# Altium footprint library RUF-Dispositivos-Grales.PcbLib: 97 footprints (part 3 of 7)
Each footprint in its own frame and in the unit in brackets; x right, y up, seen from the top. Pads: shape width x height; smd on the part's side, far side on the other; paste and mask are expansions set on the pad; w line width, h text height; cw(c..) or ccw(c..) is an arc to the next point about the centre after c.
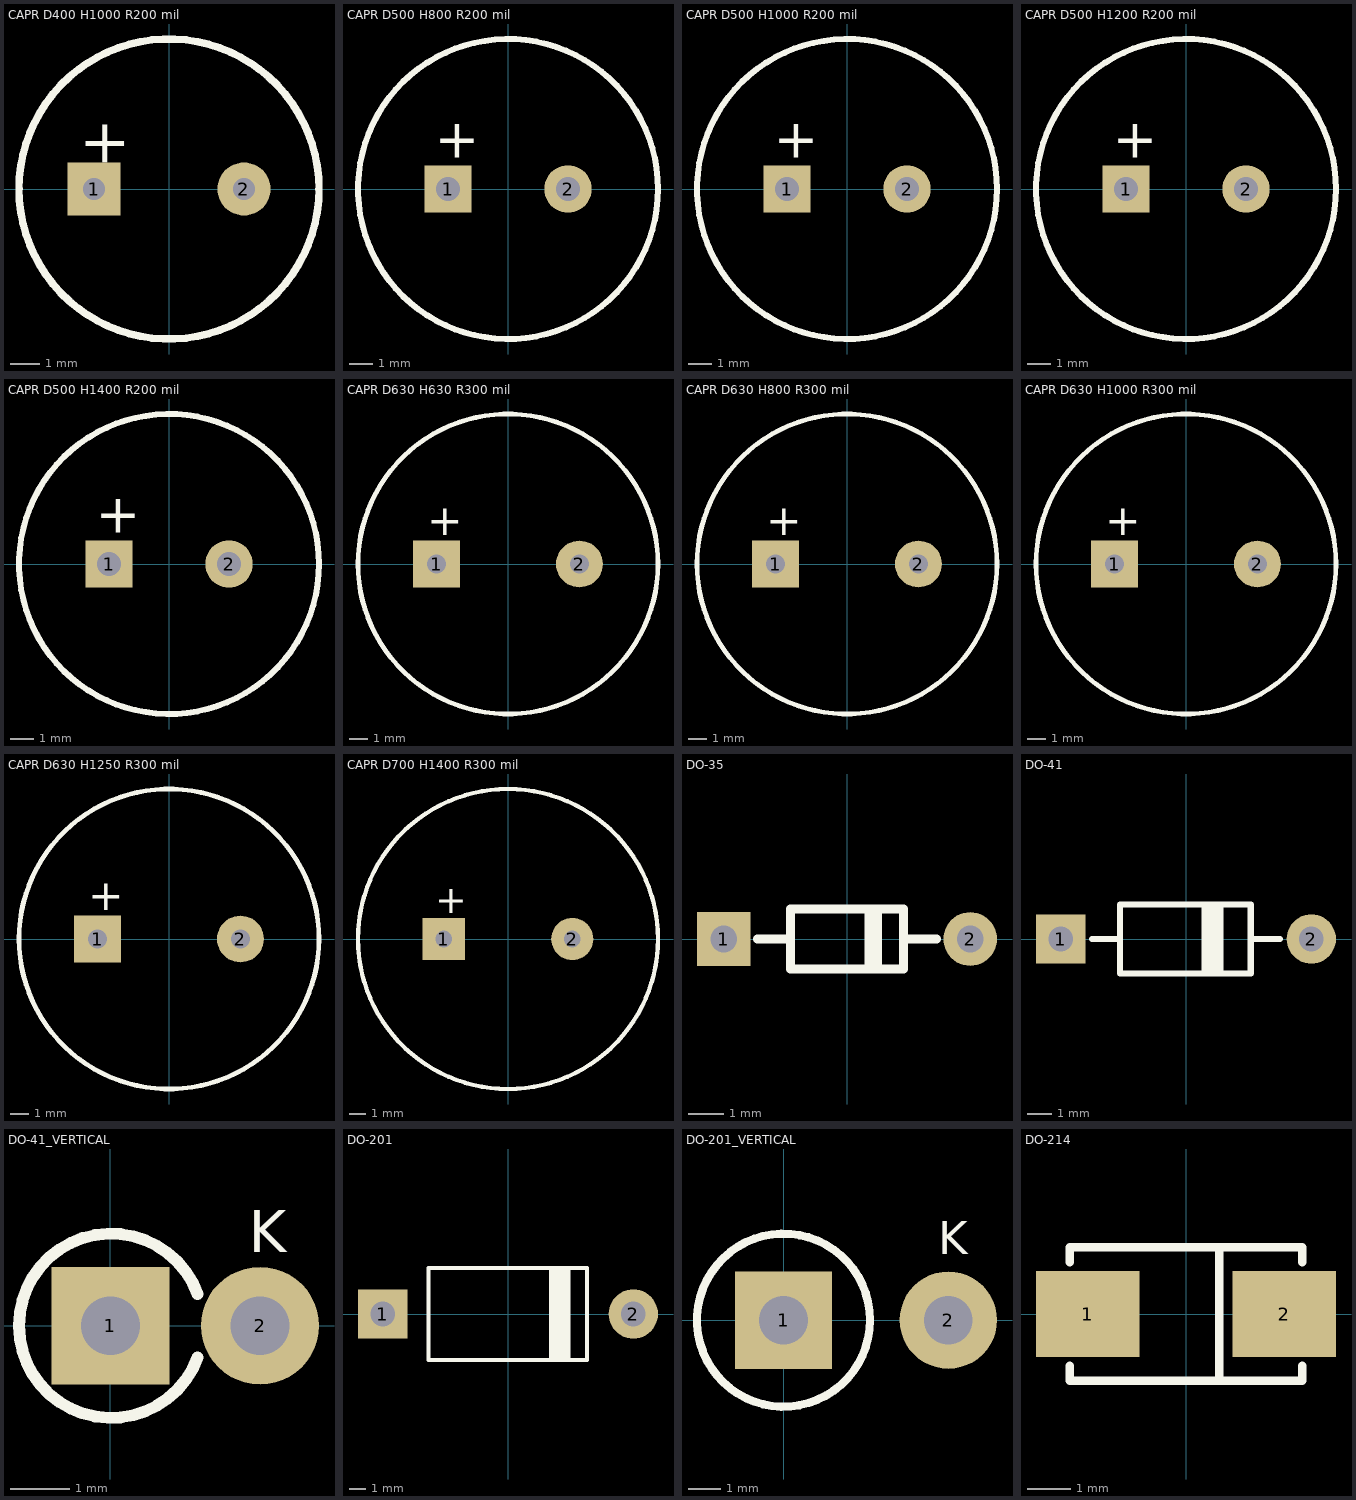
[diagram p2: the footprints below, top view; thin cyan lines are the x and y axes]

## CAPR D400 H1000 R200 mil [mm]
height 25.4
pads (2):
  rect 1.8x1.8 hole 0.75: 1(-2.54,0)
  round 1.8 hole 0.75: 2(2.54,0)
Top Overlay:
  circle w0.254: c0,0 r5.08
  text "+" at -3.048,0.889 h1.52
3D body: height 27, standoff -3, extent -5.25,-5.234 5.205,5.234

## CAPR D500 H800 R200 mil [mm]
height 20.32
pads (2):
  rect 2x2 hole 1: 1(-2.54,0)
  round 2 hole 1: 2(2.54,0)
Top Overlay:
  circle w0.254: c0,0 r6.35
  text "+" at -3.099,1.321 h1.65
3D body: height 2.49, standoff -22.51, extent -6.5,-6.48 6.445,6.48

## CAPR D500 H1000 R200 mil [mm]
height 20.32
pads (2):
  rect 2x2 hole 1: 1(-2.54,0)
  round 2 hole 1: 2(2.54,0)
Top Overlay:
  circle w0.254: c0,0 r6.35
  text "+" at -3.099,1.321 h1.65
3D body: height 2.49, standoff -27.51, extent -6.5,-6.48 6.445,6.48

## CAPR D500 H1200 R200 mil [mm]
height 20.32
pads (2):
  rect 2x2 hole 1: 1(-2.54,0)
  round 2 hole 1: 2(2.54,0)
Top Overlay:
  circle w0.254: c0,0 r6.35
  text "+" at -3.099,1.321 h1.65
3D body: height 2.49, standoff -32.51, extent -6.5,-6.48 6.445,6.48

## CAPR D500 H1400 R200 mil [mm]
height 35.56
pads (2):
  rect 2x2 hole 1: 1(-2.54,0)
  round 2 hole 1: 2(2.54,0)
Top Overlay:
  circle w0.254: c0,0 r6.35
  text "+" at -3.099,1.321 h1.65
3D body: height 2.49, standoff -37.51, extent -6.5,-6.48 6.445,6.48

## CAPR D630 H630 R300 mil [mm]
height 16.002
pads (2):
  rect 2.5x2.5 hole 1: 1(-3.81,0)
  round 2.5 hole 1: 2(3.81,0)
Top Overlay:
  circle w0.254: c0,0 r8.001
  text "+" at -4.318,1.524 h1.65
3D body: height 2.49, standoff -18.01, extent -8.25,-8.224 8.18,8.225

## CAPR D630 H800 R300 mil [mm]
height 20.32
pads (2):
  rect 2.5x2.5 hole 1: 1(-3.81,0)
  round 2.5 hole 1: 2(3.81,0)
Top Overlay:
  circle w0.254: c0,0 r8.001
  text "+" at -4.318,1.524 h1.65
3D body: height 2.49, standoff -22.51, extent -8.25,-8.224 8.18,8.225

## CAPR D630 H1000 R300 mil [mm]
height 20.32
pads (2):
  rect 2.5x2.5 hole 1: 1(-3.81,0)
  round 2.5 hole 1: 2(3.81,0)
Top Overlay:
  circle w0.254: c0,0 r8.001
  text "+" at -4.318,1.524 h1.65
3D body: height 2.49, standoff -27.51, extent -8.25,-8.224 8.18,8.225

## CAPR D630 H1250 R300 mil [mm]
height 20.32
pads (2):
  rect 2.5x2.5 hole 1: 1(-3.81,0)
  round 2.5 hole 1: 2(3.81,0)
Top Overlay:
  circle w0.254: c0,0 r8.001
  text "+" at -4.318,1.524 h1.65
3D body: height 2.49, standoff -34.01, extent -8.25,-8.224 8.18,8.225

## CAPR D700 H1400 R300 mil [mm]
height 35.56
pads (2):
  rect 2.5x2.5 hole 1: 1(-3.81,0)
  round 2.5 hole 1: 2(3.81,0)
Top Overlay:
  circle w0.254: c0,0 r8.89
  text "+" at -4.318,1.524 h1.65
3D body: height 2.49, standoff -38.01, extent -9.25,-9.221 9.171,9.222

## DO-35 [mil]
pads (2):
  rect 60x60 hole 30: 1(-137.8,0)
  round 60 hole 30: 2(137.8,0)
Top Overlay:
  rectangle: 19.68,-33.46 39.37,33.46
  lines w10: -100,0 -62.99,0 ; 100,0 62.99,0 ; -62.99,0 -62.99,33.46 62.99,33.46 62.99,0 ; -62.99,0 -62.99,-33.46 62.99,-33.46 62.99,0
3D body: height 78.74, standoff -177.17, extent -147.63,-39.36 147.64,39.38

## DO-41 [mm] "Diode, Axial; Body 5.2 x 2.7 mm (LxDia. max), Lead Dia. 0.86 mm (max)"
height 2.8
pads (2):
  rect 2x2 hole 1: 1(-5.08,0)
  round 2 hole 1: 2(5.08,0)
Top Overlay:
  rectangle: 0.635,-1.397 1.524,1.397
  lines w0.254: -3.81,0 -2.673,0 ; 2.627,0 3.81,0 ; -2.673,-1.4 2.627,-1.4 2.627,1.4 -2.673,1.4 -2.673,-1.4
3D body: height 2.72, standoff -2.6, extent -5.537,-1.372 5.487,1.348

## DO-41_VERTICAL [mm] "Diode, Axial; Body 5.2 x 2.7 mm (LxDia. max), Lead Dia. 0.86 mm (max)"
height 2.8
pads (2):
  rect 2x2 hole 1: 1(0,0)
  round 2 hole 1: 2(2.54,0)
Top Overlay:
  lines w0.2: 1.481,-0.539 cw(c0.013,0) 1.481,0.539
  text "K" at 2.35,1.25 h0.71
3D body: height 6.59, standoff -1.8, extent -1.333,-1.333 2.934,1.333

## DO-201 [mm] "Diode, Axial; Body 9.5 x 5.6 mm (LxDia. max), Lead Dia. 1.32 mm (max)"
height 5.6
pads (2):
  rect 3x3 hole 1.5: 1(-7.62,0)
  round 3 hole 1.5: 2(7.62,0)
Top Overlay:
  rectangle: 2.5,-2.8 3.8,2.8
  lines w0.254: -4.826,-2.8 -4.826,2.8 4.8,2.8 4.8,-2.8 -4.826,-2.8
3D body: height 6.08, standoff -1.02, extent -8.245,-2.6 8.245,2.6

## DO-201_VERTICAL [mm]
pads (2):
  rect 3x3 hole 1.5: 1(0,0)
  round 3 hole 1.5: 2(5.08,0)
Top Overlay:
  circle w0.254: c0,0 r2.667
  text "K" at 4.775,2.032 h1.02
3D body: height 13.74, standoff -0.89, extent -2.626,-2.6 5.679,2.6

## DO-214 [mm] "Encapsulado SAM/DO-214 para diodo ES1A-J"
pads (2):
  rect 2.4x2 smd: 1(-2.286,0) 2(2.286,0)
Top Overlay:
  lines w0.2: -2.7,-1.2 -2.7,-1.55 0.775,-1.55 ; -2.7,1.2 -2.7,1.55 0.775,1.55 ; 2.7,-1.2 2.7,-1.55 0.775,-1.55 ; 2.7,1.2 2.7,1.55 0.775,1.55 ; 0.775,-1.55 0.775,1.55
Top Paste:
  lines w0.203: -2.743,-0.432 ccw(c-2.489,-0.432) -2.489,-0.686 -2.057,-0.686 -1.626,-0.686 ccw(c-1.626,-0.432) -1.372,-0.432 -1.372,0 -1.372,0.432 ccw(c-1.626,0.432) -1.626,0.686 -2.057,0.686 -2.489,0.686 ccw(c-2.489,0.432) -2.743,0.432 -2.743,0 -2.743,-0.432 ; 1.357,-0.432 ccw(c1.611,-0.432) 1.611,-0.686 2.043,-0.686 2.474,-0.686 ccw(c2.474,-0.432) 2.728,-0.432 2.728,0 2.728,0.432 ccw(c2.474,0.432) 2.474,0.686 2.043,0.686 1.611,0.686 ccw(c1.611,0.432) 1.357,0.432 1.357,0 1.357,-0.432
3D body: height 2.2, standoff 0, extent -2.5,-1.35 2.5,1.35